# EAGLE library part AK130/23 (library PTR_AK130)
ANSCHLUSSKLEMME AK130 (23POLIG)
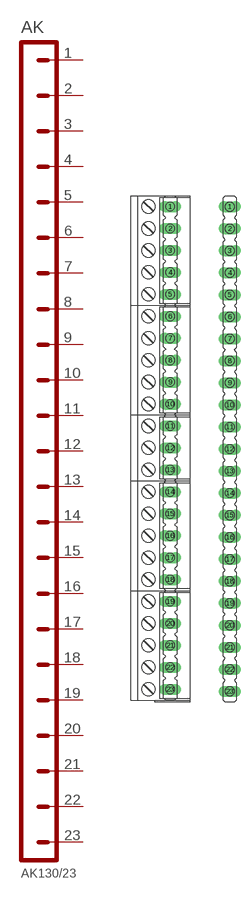
[diagram p17: symbol with the pads of AK23; footprints AK23, STL23]

Designator prefix AK

## AK130/23  [AK23]
1  P$1
2  P$2
3  P$3
4  P$4
5  P$5
6  P$6
7  P$7
8  P$8
9  P$9
10  P$10
11  P$11
12  P$12
13  P$13
14  P$14
15  P$15
16  P$16
17  P$17
18  P$18
19  P$19
20  P$20
21  P$21
22  P$22
23  P$23

## AK130/23_STL  [STL23]
Pads as for AK23

## Footprint AK23 (pad centres in mm)
AK130 (23POLIG) 1x AK130/3-5.0-GRAU 4x AK130/5-5.0-GRAU STL130/24-5.0-V-SCHWARZ
drill 1.5 pad 2.54 long: 1 0,55; 2 0,50; 3 0,45; 4 0,40; 5 0,35; 6 0,30; 7 0,25; 8 0,20; 9 0,15; 10 0,10; 11 0,5; 12 0,0; 13 0,-5; 14 0,-10; 15 0,-15; 16 0,-20; 17 0,-25; 18 0,-30; 19 0,-35; 20 0,-40; 21 0,-45; 22 0,-50; 23 0,-55

## Footprint STL23 (pad centres in mm)
STL130 (23POLIG) STL130/24-5.0-V-SCHWARZ
drill 1.5 pad 2.54 long: 1 0,55; 2 0,50; 3 0,45; 4 0,40; 5 0,35; 6 0,30; 7 0,25; 8 0,20; 9 0,15; 10 0,10; 11 0,5; 12 0,0; 13 0,-5; 14 0,-10; 15 0,-15; 16 0,-20; 17 0,-25; 18 0,-30; 19 0,-35; 20 0,-40; 21 0,-45; 22 0,-50; 23 0,-55